# Altium footprint library PCB - CONNECTOR - USB - Same Sky UJ20-C-H-G-SMT-2-P16-TR.PcbLib: 1 footprints
Each footprint in its own frame and in the unit in brackets; x right, y up, seen from the top. Pads: shape width x height; smd on the part's side, far side on the other; paste and mask are expansions set on the pad; w line width, h text height; cw(c..) or ccw(c..) is an arc to the next point about the centre after c.
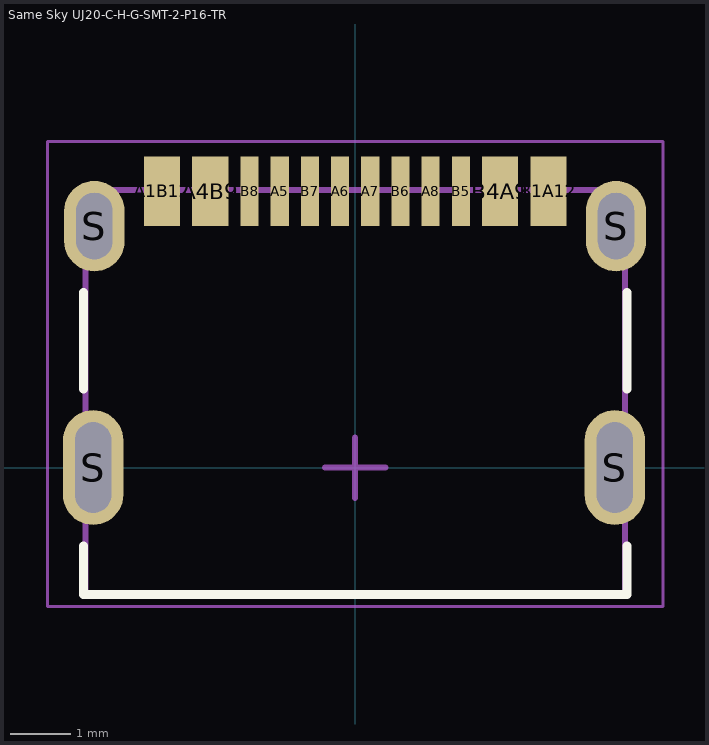
[diagram p0: the footprint, top view; thin cyan lines are the x and y axes]

## Same Sky UJ20-C-H-G-SMT-2-P16-TR [mm] "Type C, USB 2.0, 480 Mbps, 48 Vdc, 5 A, Horizontal, Surface Mount Anchor Pins Mounting Style, Surface Mount Contact Pin Type, Gold Plated 3 µin, 16 Pins, USB Receptacle"
height 3.16
pads (16):
  rect 0.6x1.15 smd: A1B12(-3.2,4.575) A4B9(-2.4,4.575) B1A12(3.2,4.575) B4A9(2.4,4.575)
  rect 0.3x1.15 smd: A5(-1.25,4.575) A6(-0.25,4.575) A7(0.25,4.575) A8(1.25,4.575) B5(1.75,4.575) B6(0.75,4.575) B7(-0.75,4.575) B8(-1.75,4.575)
  oval 1x1.9 hole 0.6 slot 1.5 at 90 deg: S(-4.34,0) S(4.3,0)
  oval 1x1.5 hole 0.6 slot 1.1 at 90 deg: S(-4.32,4) S(4.32,4)
Top Overlay:
  lines w0.15: -4.5,-1.3 -4.5,-2.1 4.5,-2.1 4.5,-1.3 ; -4.5,1.3 -4.5,2.9 ; 4.5,1.3 4.5,2.9
Mechanical 13:
  lines w0.1: -4.47,-2.1 4.47,-2.1 4.47,4.6 -4.47,4.6 -4.47,-2.1
Mechanical 15 (Mech15):
  lines w0.05: -5.1,-2.3 5.1,-2.3 5.1,5.4 -5.1,5.4 -5.1,-2.3
  lines w0.1: -0.5,0 0,0 ; 0,-0.5 0,0 ; 0,0.5 0,0 ; 0.5,0 0,0
3D body "Same Sky UJ20-C-H-G-SMT-2-P16-TR.step": height 3.26, standoff -0.51, extent -4.47,-2.1 4.47,4.65